# Altium footprint library iTOP4412_main_Clasics_v3_2.PcbLib: 41 footprints (part 1 of 3)
Each footprint in its own frame and in the unit in brackets; x right, y up, seen from the top. Pads: shape width x height; smd on the part's side, far side on the other; paste and mask are expansions set on the pad; w line width, h text height; cw(c..) or ccw(c..) is an arc to the next point about the centre after c.
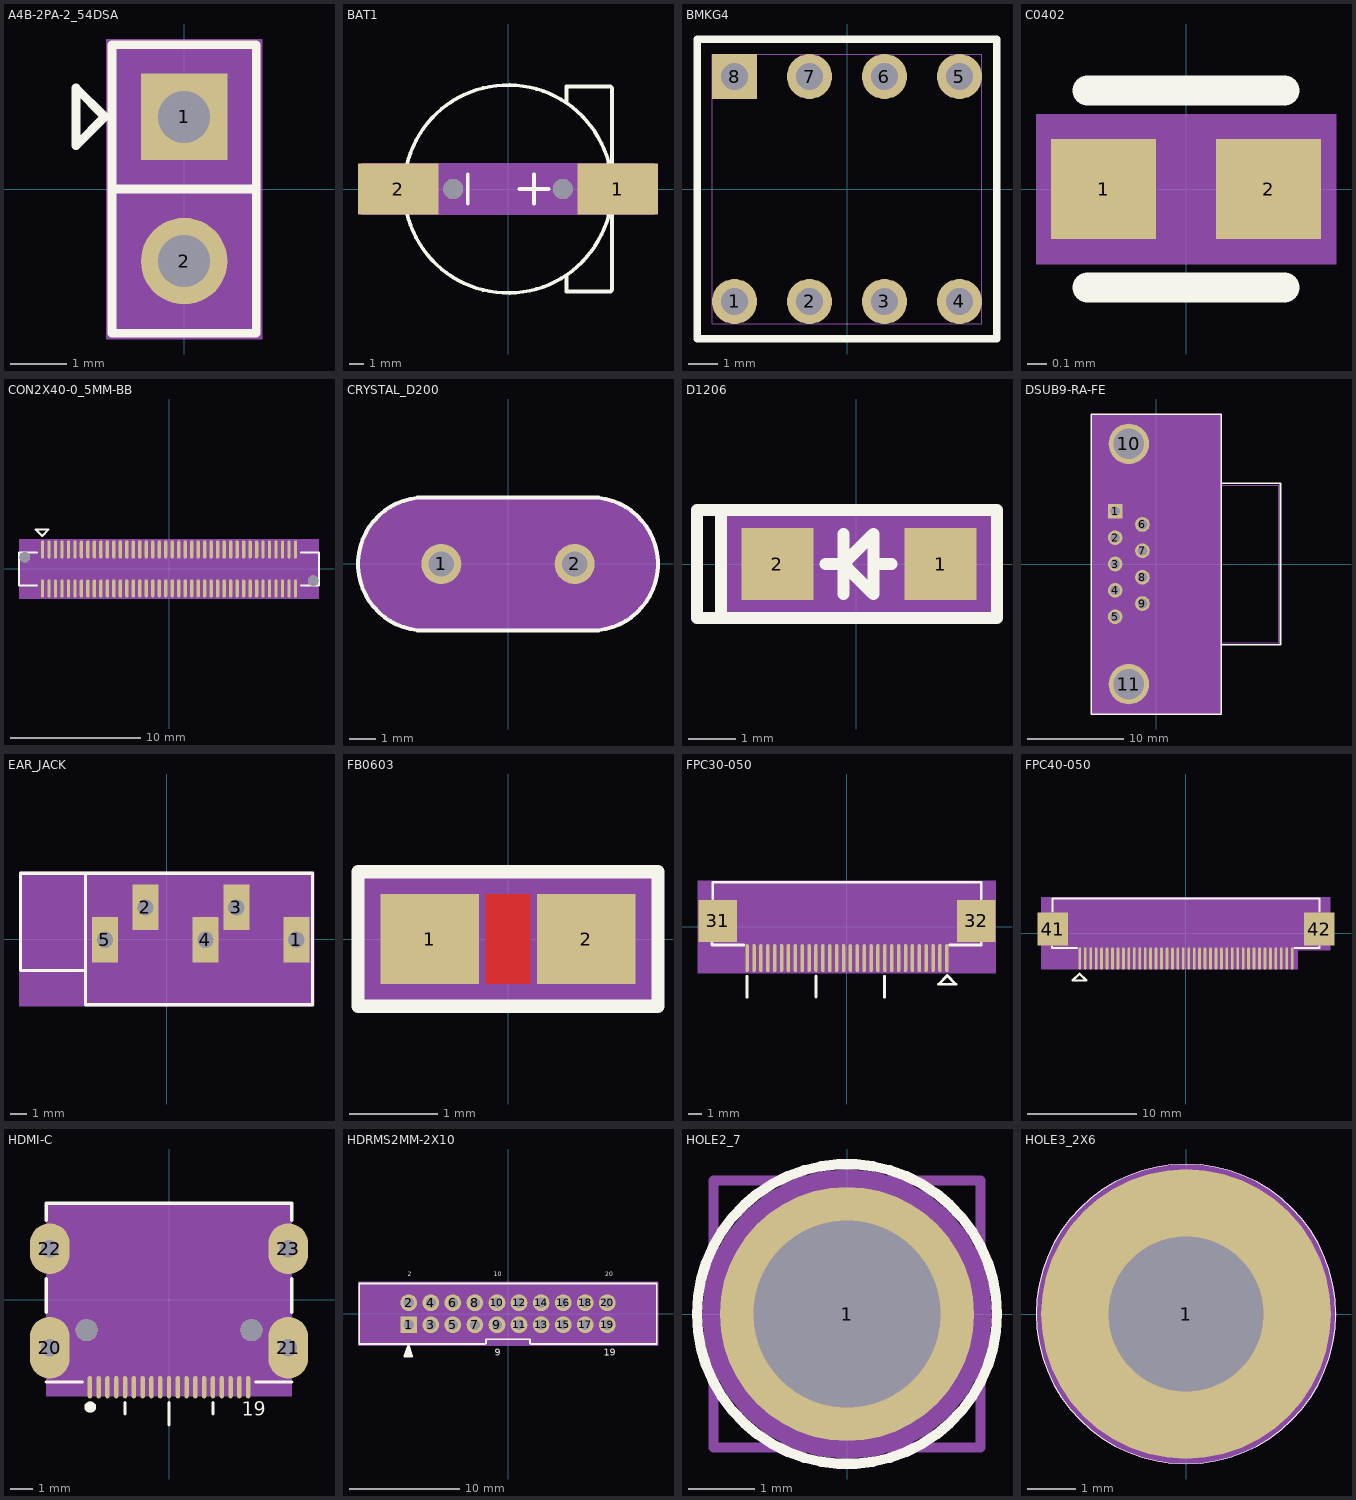
[diagram p0: the footprints below, top view; thin cyan lines are the x and y axes]

## A4B-2PA-2_54DSA [mil] "A4B-2PA-2_54DSA"
pads (2):
  rect 60x60 / inner round 60 / far side rect 60x60 hole 36: 1(0,50)
  round 60 hole 36: 2(0,-50)
Top Overlay:
  lines w5.98: -75,30 -75,70 -55,50 -75,30
  lines w6: -50,0 50,0 ; -50,-100 50,-100 50,100 -50,100 -50,-100
Mechanical 9:
  text "2" at 0,-38.98 h27.56
  text "1" at 0,61.02 h27.56
Mechanical 10:
  region: -53.94,-103.94 53.94,-103.94 53.94,103.94 -53.94,103.94

## BAT1 [mil] "BAT1"
pads (4):
  rect 220x140 smd: 1(300,0) 2(-300,0)
  round 55 / inner round 60 / far side round 55 hole 55: " "(-150,0) " "(150,0)
Top Overlay:
  circle w10: c0,0 r284.25
  lines w10: -110,-40 -110,40 ; 31,0.2 111,0.2 ; 71,-39.8 71,40.2 ; 160,-240 160,-280 280,-280 284.25,-275.75 284.25,0 284.25,275.75 280,280 160,280 160,240
Mechanical 9:
  text "1" at 300,-10 h25
  text "2" at -300,-10 h25
Mechanical 10:
  region: -400,-70 400,-70 400,70 -400,70

## BMKG4 [mil] "BMKG4"
pads (8):
  round 60 hole 36: 1(-150,-150) 2(-50,-150) 3(50,-150) 4(150,-150) 5(150,150) 6(50,150) 7(-50,150)
  rect 60x60 / inner round 60 / far side rect 60x60 hole 36: 8(-150,150)
Top Overlay:
  lines w10: -200,-200 200,-200 200,200 -200,200 -200,-200
Mechanical 9:
  text "5" at 140,150 h25
  text "6" at 40,150 h25
  text "7" at -60,150 h25
  text "8" at -160,150 h25
  text "2" at -60,-150 h25
  text "1" at -160,-150 h25
  text "4" at 140,-150 h25
  text "3" at 40,-150 h25
Mechanical 10:
  lines w1: -180,-180 180,-180 180,180 -180,180 -180,-180

## C0402 [mil] "C0402"
pads (2):
  rect 21x20 smd: 1(-16.5,0) 2(16.5,0)
Top Overlay:
  lines w5.98: -19.69,-19.69 19.69,-19.69 ; -19.69,19.69 19.69,19.69
Mechanical 9:
  text "2" at 16.5,10 h25
  text "1" at -16.5,10 h25
Mechanical 10:
  region: 30,-15 30,15 -30,15 -30,-15

## CON2X40-0_5MM-BB [mil] "CON2X40-0_5MM-BB"
pads (82):
  oval 10x55 smd: 1(-383.86,59.06) 2(-383.86,-59.06) 3(-364.17,59.06) 4(-364.17,-59.06) 5(-344.49,59.06) 6(-344.49,-59.06) 7(-324.8,59.06) 8(-324.8,-59.06) 9(-305.12,59.06) 10(-305.12,-59.06) 11(-285.43,59.06) 12(-285.43,-59.06) 13(-265.75,59.06) 14(-265.75,-59.06) 15(-246.06,59.06) 16(-246.06,-59.06) 17(-226.38,59.06) 18(-226.38,-59.06) 19(-206.69,59.06) 20(-206.69,-59.06) 21(-187.01,59.06) 22(-187.01,-59.06) 23(-167.32,59.06) 24(-167.32,-59.06) 25(-147.64,59.06) 26(-147.64,-59.06) 27(-127.95,59.06) 28(-127.95,-59.06) 29(-108.27,59.06) 30(-108.27,-59.06) 31(-88.58,59.06) 32(-88.58,-59.06) 33(-68.9,59.06) 34(-68.9,-59.06) 35(-49.21,59.06) 36(-49.21,-59.06) 37(-29.53,59.06) 38(-29.53,-59.06) 39(-9.84,59.06) 40(-9.84,-59.06) 41(9.84,59.06) 42(9.84,-59.06) 43(29.53,59.06) 44(29.53,-59.06) 45(49.21,59.06) 46(49.21,-59.06) 47(68.9,59.06) 48(68.9,-59.06) 49(88.58,59.06) 50(88.58,-59.06) 51(108.27,59.06) 52(108.27,-59.06) 53(127.95,59.06) 54(127.95,-59.06) 55(147.64,59.06) 56(147.64,-59.06) 57(167.32,59.06) 58(167.32,-59.06) 59(187.01,59.06) 60(187.01,-59.06) 61(206.69,59.06) 62(206.69,-59.06) 63(226.38,59.06) 64(226.38,-59.06) 65(246.06,59.06) 66(246.06,-59.06) 67(265.75,59.06) 68(265.75,-59.06) 69(285.43,59.06) 70(285.43,-59.06) 71(305.12,59.06) 72(305.12,-59.06) 73(324.8,59.06) 74(324.8,-59.06) 75(344.49,59.06) 76(344.49,-59.06) 77(364.17,59.06) 78(364.17,-59.06) 79(383.86,59.06) 80(383.86,-59.06)
  round 32 / inner round 60 / far side round 32 hole 32: " "(-437.01,35.43) " "(437.01,-35.43)
Top Overlay:
  lines w6: -400,-50 -455,-50 -455,50 -400,50 ; 400,-50 455,-50 455,50 400,50 ; -405,120 -365,120 -385,100 -405,120
Mechanical 9:
  text "29" at -88.27,159.06 h25
  text "42" at 29.84,-159.06 h25
  text "36" at -29.21,-159.06 h25
  text "35" at -29.21,159.06 h25
  text "31" at -68.58,159.06 h25
  text "40" at 10.16,-159.06 h25
  text "33" at -48.9,159.06 h25
  text "27" at -107.95,159.06 h25
  text "37" at -9.53,159.06 h25
  text "38" at -9.53,-159.06 h25
  text "2" at -373.86,-159.06 h25
  text "1" at -373.86,159.06 h25
  text "24" at -147.32,-159.06 h25
  text "22" at -167.01,-159.06 h25
  text "16" at -226.06,-159.06 h25
  text "30" at -88.27,-159.06 h25
  text "52" at 128.27,-159.06 h25
  text "46" at 69.21,-159.06 h25
  text "72" at 325.12,-159.06 h25
  text "48" at 88.9,-159.06 h25
  text "43" at 49.53,159.06 h25
  text "44" at 49.53,-159.06 h25
  text "64" at 246.38,-159.06 h25
  text "62" at 226.69,-159.06 h25
  text "56" at 167.64,-159.06 h25
  text "60" at 207.01,-159.06 h25
  text "58" at 187.32,-159.06 h25
  text "47" at 88.9,159.06 h25
  text "61" at 226.69,159.06 h25
  text "59" at 207.01,159.06 h25
  text "57" at 187.32,159.06 h25
  text "28" at -107.95,-159.06 h25
  text "55" at 167.64,159.06 h25
  text "26" at -127.64,-159.06 h25
  text "68" at 285.75,-159.06 h25
  text "73" at 344.8,159.06 h25
  text "11" at -265.43,159.06 h25
  text "10" at -285.12,-159.06 h25
  text "9" at -295.12,159.06 h25
  text "13" at -245.75,159.06 h25
  text "15" at -226.06,159.06 h25
  text "17" at -206.38,159.06 h25
  text "18" at -206.38,-159.06 h25
  text "14" at -245.75,-159.06 h25
  text "12" at -265.43,-159.06 h25
  text "8" at -314.8,-159.06 h25
  text "7" at -314.8,159.06 h25
  text "80" at 403.86,-159.06 h25
  text "3" at -354.17,159.06 h25
  text "4" at -354.17,-159.06 h25
  text "25" at -127.64,159.06 h25
  text "23" at -147.32,159.06 h25
  text "78" at 384.17,-159.06 h25
  text "76" at 364.49,-159.06 h25
  text "66" at 266.06,-159.06 h25
  text "20" at -186.69,-159.06 h25
  text "77" at 384.17,159.06 h25
  text "79" at 403.86,159.06 h25
  text "75" at 364.49,159.06 h25
  text "63" at 246.38,159.06 h25
  text "53" at 147.95,159.06 h25
  text "32" at -68.58,-159.06 h25
  text "34" at -48.9,-159.06 h25
  text "19" at -186.69,159.06 h25
  text "6" at -334.49,-159.06 h25
  text "49" at 108.58,159.06 h25
  text "50" at 108.58,-159.06 h25
  text "41" at 29.84,159.06 h25
  text "5" at -334.49,159.06 h25
  text "67" at 285.75,159.06 h25
  text "21" at -167.01,159.06 h25
  text "39" at 10.16,159.06 h25
  text "70" at 305.43,-159.06 h25
  text "54" at 147.95,-159.06 h25
  text "71" at 325.12,159.06 h25
  text "51" at 128.27,159.06 h25
  text "74" at 344.8,-159.06 h25
  text "69" at 305.43,159.06 h25
  text "65" at 266.06,159.06 h25
  text "45" at 69.21,159.06 h25
Mechanical 10:
  region: -455,-90 -455,90 455,90 455,-90
Mechanical 11:
  lines w6: -452.76,-49.21 452.76,-49.21 452.76,49.21 -452.76,49.21 -452.76,-49.21

## CRYSTAL_D200 [mil] "CRYSTAL_D200"
pads (2):
  round 60 hole 38: 1(-100.26,0) 2(99.74,0)
Top Overlay:
  lines w6: -125.26,-100 cw(c-125.26,0) -125.26,100 124.74,100 cw(c124.74,0) 124.74,-100 -125.26,-100
  text ".Designator" at -10,260 h30
Mechanical 8:
  text "1" at -100.26,10 h25
  text "2" at 99.74,10 h25
Mechanical 9:
  region: -125.26,100 124.74,100 133.46,99.63 142.11,98.5 150.63,96.62 158.95,94.01 167.01,90.68 174.76,86.67 182.12,81.99 189.05,76.68 195.49,70.8 201.39,64.37 206.71,57.46 211.41,50.11 215.44,42.38 218.79,34.32 221.43,26 223.32,17.49 224.47,8.84 224.86,0.12 224.5,-8.59 223.37,-17.24 221.49,-25.76 218.88,-34.08 215.55,-42.15 211.53,-49.89 206.85,-57.26 201.55,-64.18 195.66,-70.62 189.24,-76.52 182.32,-81.84 174.97,-86.54 167.24,-90.58 159.18,-93.93 150.87,-96.56 142.35,-98.46 133.71,-99.61 124.99,-100 124.74,-100 -125.26,-100 -133.97,-99.59 -142.62,-98.41 -151.13,-96.49 -159.44,-93.83 -167.48,-90.46 -175.21,-86.41 -182.55,-81.69 -189.45,-76.35 -195.86,-70.43 -201.72,-63.98 -207.01,-57.03 -211.67,-49.66 -215.66,-41.9 -218.97,-33.83 -221.56,-25.5 -223.41,-16.98 -224.52,-8.32 -224.87,0.4 -224.45,9.11 -223.28,17.75 -221.36,26.26 -218.7,34.57 -215.33,42.62 -211.27,50.34 -206.55,57.68 -201.22,64.58 -195.3,70.99 -188.84,76.86 -181.9,82.14 -174.52,86.8 -166.77,90.8 -158.7,94.1 -150.37,96.69 -141.84,98.55 -133.19,99.65
Mechanical 10:
  lines w1: -125.26,-100 cw(c-125.26,0) -125.26,100 124.74,100 cw(c124.74,0) 124.74,-100 -125.26,-100

## D1206 [mil] "D1206"
pads (2):
  rect 60x60 smd: 1(70.49,0) 2(-65.49,0)
Top Overlay:
  lines w10: -112.5,-45 -112.5,45 ; -25.49,0 -10.49,0 ; -10.49,-25 -10.49,25 ; 14.51,0 29.51,0 ; -10.49,0 14.51,-25 14.51,25 -10.49,0 ; -132.5,-45 -132.5,45 2.5,45 117.5,45 117.5,-45 2.5,-45 -132.5,-45
Mechanical 9:
  text "2" at -65.49,-10 h25
  text "1" at 70.49,-10 h25
Mechanical 10:
  region: -117.5,-45 117.5,-45 117.5,45 -117.5,45

## DSUB9-RA-FE [mil] "DSUB9-RA-FE"
pads (11):
  rect 60x60 / inner round 60 / far side rect 60x60 hole 40: 1(-168.11,215.75)
  round 60 hole 40: 2(-168.11,107.87) 3(-168.11,0) 4(-168.11,-107.87) 5(-168.11,-215.75) 6(-56.3,161.81) 7(-56.3,53.94) 8(-56.3,-53.94) 9(-56.3,-161.81)
  round 165.35 / inner round 60 / far side round 165.35 hole 125.98: 10(-112.2,492.13) 11(-112.2,-492.13)
Top Overlay:
  lines w6: -265.75,-614.17 265.75,-614.17 265.75,614.17 -265.75,614.17 -265.75,-614.17
  lines w7.87: 265.75,-330.71 509.84,-330.71 509.84,330.71 265.75,330.71
Mechanical 9:
  text "7" at -56.3,42.91 h27.56
  text "8" at -56.3,-64.96 h27.56
  text "2" at -168.11,96.85 h27.56
  text "3" at -168.11,-11.02 h27.56
  text "5" at -168.11,-226.77 h27.56
  text "9" at -56.3,-172.83 h27.56
  text "6" at -56.3,150.79 h27.56
  text "4" at -168.11,-118.9 h27.56
  text "11" at -112.2,-536.22 h27.56
  text "10" at -112.2,448.03 h27.56
  text "1" at -168.11,204.72 h27.56
Mechanical 10:
  region: -265.75,-614.17 265.75,-614.17 265.75,614.17 -265.75,614.17
Mechanical 11:
  lines w1: 257.87,-322.83 501.57,-322.83 501.57,322.83 257.87,322.83 ; -257.09,-606.5 -257.09,606.5 258.66,606.5 258.66,-606.5 -257.09,-606.5
Mechanical 12:
  pour cut-out: -265.75,-614.17 265.75,-614.17 265.75,614.17 -265.75,614.17

## EAR_JACK [mm] "EAR_JACK"
pads (5):
  rect 1.6x2.8 / inner round 1.524 / far side rect 1.6x2.8 hole 1: 1(8,-0.05) 2(-1.3,1.95) 3(4.3,1.95) 4(2.4,-0.05) 5(-3.8,-0.05)
Top Overlay:
  lines w0.2: -4.9,4.05 -5,3.95 -5,-1.95 ; -5,-1.95 -9,-1.95 -9,4.05 9,4.05 9,-4.05 -5,-4.05 -5,-1.95
Mechanical 9:
  text "1" at 8,0.458 h0.64
  text "3" at 4.3,2.458 h0.64
  text "4" at 2.4,0.458 h0.64
  text "2" at -1.3,2.458 h0.64
  text "5" at -3.8,0.458 h0.64
Mechanical 10:
  region: -9.1,-4.15 9.1,-4.15 9.1,4.15 -9.1,4.15

## FB0603 [mil] "FB0603"
pads (2):
  rect 44x40 smd: 1(-35,0) 2(35,0)
Top Layer:
  region: -10,-20 10,-20 10,20 -10,20
Top Overlay:
  lines w6: -67,-30 -67,30 67,30 67,-30 20,-30 -67,-30
Mechanical 9:
  text "1" at -35,-10 h25
  text "2" at 35,-10 h25
Mechanical 10:
  region: -65,-30 65,-30 65,30 -65,30

## FPC30-050 [mil] "FPC30-050"
pads (32):
  oval 10x80 smd: 1(285.86,-89) 2(266.17,-89) 3(246.49,-89) 4(226.8,-89) 5(207.12,-89) 6(187.43,-89) 7(167.75,-89) 8(148.06,-89) 9(128.38,-89) 10(108.69,-89) 11(89.01,-89) 12(69.32,-89) 13(49.64,-89) 14(29.95,-89) 15(10.27,-89) 16(-9.42,-89) 17(-29.1,-89) 18(-48.79,-89) 19(-68.47,-89) 20(-88.16,-89) 21(-107.84,-89) 22(-127.53,-89) 23(-147.21,-89) 24(-166.9,-89) 25(-186.58,-89) 26(-206.27,-89) 27(-225.95,-89) 28(-245.64,-89) 29(-265.32,-89) 30(-285.01,-89)
  rect 110x120 smd: 31(-368.28,17.3) 32(369.28,17.3)
Top Overlay:
  lines w7.87: -385.25,-45.69 -385.25,-51.6 -294.7,-51.6 ; -383.28,80.29 -383.28,127.53 384.28,127.53 384.28,80.29 ; -285,-201 -285,-141 ; -88,-200 -88,-140 ; 108,-201 108,-141 ; 293.73,-51.6 384.28,-51.6 384.28,-45.69 ; 262,-164 287,-139 312,-164 262,-164
Mechanical 9:
  text "4" at 234.8,-89 h20
  text "3" at 254.49,-89 h20
  text "7" at 175.75,-89 h20
  text "5" at 215.12,-89 h20
  text "6" at 195.43,-89 h20
  text "9" at 136.38,-89 h20
  text "2" at 274.17,-89 h20
  text "13" at 65.64,-89 h20
  text "25" at -170.58,-89 h20
  text "23" at -131.21,-89 h20
  text "17" at -13.1,-89 h20
  text "20" at -72.16,-89 h20
  text "26" at -190.27,-89 h20
  text "19" at -52.47,-89 h20
  text "14" at 45.95,-89 h20
  text "16" at 6.58,-89 h20
  text "22" at -111.53,-89 h20
  text "29" at -249.32,-89 h20
  text "11" at 105.01,-89 h20
  text "30" at -269.01,-89 h20
  text "12" at 85.32,-89 h20
  text "10" at 124.69,-89 h20
  text "15" at 26.27,-89 h20
  text "18" at -32.79,-89 h20
  text "21" at -91.84,-89 h20
  text "24" at -150.9,-89 h20
  text "28" at -229.64,-89 h20
  text "27" at -209.95,-89 h20
  text "31" at -352.28,17.3 h20
  text "32" at 385.28,17.3 h20
  text "1" at 293.86,-89 h20
  text "8" at 156.06,-89 h20
Mechanical 10:
  region: 426,132 426,-132 -426,-132 -426,132

## FPC40-050 [mil] "FPC40-050"
pads (42):
  oval 10x80 smd: 1(-382.81,-90.55) 2(-363.13,-90.55) 3(-343.44,-90.55) 4(-323.76,-90.55) 5(-304.07,-90.55) 6(-284.39,-90.55) 7(-264.7,-90.55) 8(-245.02,-90.55) 9(-225.34,-90.55) 10(-205.65,-90.55) 11(-185.97,-90.55) 12(-166.28,-90.55) 13(-146.59,-90.55) 14(-126.91,-90.55) 15(-107.22,-90.55) 16(-87.54,-90.55) 17(-67.86,-90.55) 18(-48.17,-90.55) 19(-28.48,-90.55) 20(-8.8,-90.55) 21(10.89,-90.55) 22(30.57,-90.55) 23(50.26,-90.55) 24(69.94,-90.55) 25(89.63,-90.55) 26(109.31,-90.55) 27(129,-90.55) 28(148.68,-90.55) 29(168.37,-90.55) 30(188.05,-90.55) 31(207.74,-90.55) 32(227.42,-90.55) 33(247.11,-90.55) 34(266.79,-90.55) 35(286.48,-90.55) 36(306.16,-90.55) 37(325.85,-90.55) 38(345.53,-90.55) 39(365.22,-90.55) 40(384.9,-90.55)
  rect 110x120 smd: 41(-481.24,15.75) 42(483.33,15.75)
Top Overlay:
  lines w7.87: -483.21,-47.24 -483.21,-53.15 -392.66,-53.15 ; -481.24,78.74 -481.24,125.98 483.33,125.98 483.33,78.74 ; 392.77,-53.15 483.33,-53.15 483.33,-47.24 ; -408.96,-170.55 -383.96,-145.55 -358.96,-170.55 -408.96,-170.55
Mechanical 9:
  text "1" at -392.81,-90.55 h25
  text "4" at -333.76,-90.55 h25
  text "3" at -353.44,-90.55 h25
  text "2" at -373.13,-90.55 h25
  text "5" at -314.07,-90.55 h25
  text "31" at 187.74,-90.55 h25
  text "28" at 128.68,-90.55 h25
  text "35" at 266.48,-90.55 h25
  text "25" at 69.63,-90.55 h25
  text "26" at 89.31,-90.55 h25
  text "30" at 168.05,-90.55 h25
  text "37" at 305.85,-90.55 h25
  text "6" at -294.39,-90.55 h25
  text "11" at -205.97,-90.55 h25
  text "20" at -28.8,-90.55 h25
  text "29" at 148.37,-90.55 h25
  text "27" at 109,-90.55 h25
  text "32" at 207.42,-90.55 h25
  text "38" at 325.53,-90.55 h25
  text "39" at 345.22,-90.55 h25
  text "42" at 467.33,15.75 h20
  text "41" at -497.24,15.75 h20
  text "40" at 364.9,-90.55 h25
  text "9" at -235.34,-90.55 h25
  text "17" at -87.86,-90.55 h25
  text "16" at -107.54,-90.55 h25
  text "10" at -225.65,-90.55 h25
  text "7" at -274.7,-90.55 h25
  text "18" at -68.17,-90.55 h25
  text "8" at -255.02,-90.55 h25
  text "14" at -146.91,-90.55 h25
  text "13" at -166.59,-90.55 h25
  text "15" at -127.22,-90.55 h25
  text "12" at -186.28,-90.55 h25
  text "24" at 49.94,-90.55 h25
  text "23" at 30.26,-90.55 h25
  text "22" at 10.57,-90.55 h25
  text "21" at -9.11,-90.55 h25
  text "19" at -48.48,-90.55 h25
  text "34" at 246.79,-90.55 h25
  text "33" at 227.11,-90.55 h25
  text "36" at 286.16,-90.55 h25
Mechanical 10:
  region: -522.38,-129.92 405,-129.92 405,-60.31 522.7,-60.31 522.7,129.92 -522.38,129.92 -522.38,-124.92 -522.7,-125.24 -522.38,-125.55

## HDMI-C [mm] "HDMI-C"
pads (25):
  oval 0.203x1.016 smd: 1(-3.6,-3.982) 2(-3.2,-3.982) 3(-2.8,-3.982) 4(-2.4,-3.982) 5(-2,-3.982) 6(-1.6,-3.982) 7(-1.2,-3.982) 8(-0.8,-3.982) 9(-0.4,-3.982) 10(0,-3.982) 11(0.4,-3.982) 12(0.8,-3.982) 13(1.2,-3.982) 14(1.6,-3.982) 15(2,-3.982) 16(2.4,-3.982) 17(2.8,-3.982) 18(3.2,-3.982) 19(3.6,-3.982)
  oval 1.8x2.8 / inner round 1.524 / far side oval 1.8x2.8 hole 0.8: 20(-5.425,-2.182) 21(5.425,-2.182)
  oval 1.8x2.3 / inner round 1.524 / far side oval 1.8x2.3 hole 0.8: 22(-5.425,2.317) 23(5.425,2.317)
  round 1 / inner round 1.524 / far side round 1 hole 1: " "(-3.75,-1.382) " "(3.75,-1.382)
Top Overlay:
  pour cut-out: -3.324,-4.889 -3.344,-4.79 -3.4,-4.706 -3.484,-4.65 -3.583,-4.631 -3.682,-4.65 -3.766,-4.706 -3.822,-4.79 -3.842,-4.889 -3.822,-4.989 -3.766,-5.073 -3.682,-5.129 -3.583,-5.148 -3.484,-5.129 -3.4,-5.073 -3.344,-4.989
  lines w0.152: -5.588,-3.746 -3.937,-3.746 ; -5.588,-0.572 -5.588,0.953 ; -5.588,3.619 -5.588,4.381 5.588,4.381 5.588,3.619 ; -2,-5.182 -2,-4.682 ; 0,-5.682 0,-4.682 ; 2,-5.182 2,-4.682 ; 3.937,-3.746 5.588,-3.746 ; 5.588,-0.572 5.588,0.953
  text "19" at 3.3,-5.282 h0.64
Mechanical 9:
  text "18" at 2.794,-5.252 h0.51
  text "19" at 3.194,-5.252 h0.51
  text "14" at 1.194,-5.252 h0.51
  text "15" at 1.594,-5.252 h0.51
  text "16" at 1.994,-5.252 h0.51
  text "4" at -2.603,-5.252 h0.51
  text "7" at -1.403,-5.252 h0.51
  text "10" at -0.406,-5.252 h0.51
  text "13" at 0.794,-5.252 h0.51
  text "23" at 5.882,2.317 h0.51
  text "21" at 5.882,-2.182 h0.51
  text "22" at -4.968,2.317 h0.51
  text "20" at -4.968,-2.182 h0.51
  text "1" at -3.803,-5.252 h0.51
  text "17" at 2.394,-5.252 h0.51
  text "2" at -3.403,-5.252 h0.51
  text "9" at -0.603,-5.252 h0.51
  text "8" at -1.003,-5.252 h0.51
  text "3" at -3.003,-5.252 h0.51
  text "11" at -0.006,-5.252 h0.51
  text "6" at -1.803,-5.252 h0.51
  text "5" at -2.203,-5.252 h0.51
  text "12" at 0.394,-5.252 h0.51
Mechanical 10:
  region: -5.588,4.381 5.588,4.381 5.588,-4.381 -5.588,-4.381

## HDRMS2MM-2X10 [mil] "HDRMS2MM-2X10"
pads (20):
  rect 60x60 / inner round 60 / far side rect 60x60 hole 36: 1(-354.33,-39.37)
  round 60 hole 36: 2(-354.33,39.37) 3(-275.59,-39.37) 4(-275.59,39.37) 5(-196.85,-39.37) 6(-196.85,39.37) 7(-118.11,-39.37) 8(-118.11,39.37) 9(-39.37,-39.37) 10(-39.37,39.37) 11(39.37,-39.37) 12(39.37,39.37) 13(118.11,-39.37) 14(118.11,39.37) 15(196.85,-39.37) 16(196.85,39.37) 17(275.59,-39.37) 18(275.59,39.37) 19(354.33,-39.37) 20(354.33,39.37)
Top Overlay:
  lines w5.98: -531.5,-108.27 -531.5,108.27 531.5,108.27 531.5,-108.27 80.71,-108.27 78.74,-106.3 78.74,-90.55 -78.74,-90.55 -78.74,-106.3 -80.71,-108.27 -531.5,-108.27
  lines w7.87: -360.75,-151.38 -355.51,-112.01 ; -352.87,-151.38 -355.51,-112.01 ; -345,-151.38 -355.51,-112.01 ; -355.51,-112.01 -342.4,-151.38 -368.62,-151.38 -355.51,-112.01
  text "9" at -47.24,-149.61 h25
  text "19" at 342.52,-149.61 h25
  text "20" at 346.46,133.86 h15.75
  text "2" at -358.27,133.86 h15.75
  text "10" at -51.18,133.86 h15.75
Mechanical 9:
  text "11" at 39.37,-59.37 h25
  text "15" at 196.85,-59.37 h25
  text "2" at -354.33,29.37 h25
  text "1" at -354.33,-49.37 h25
  text "9" at -39.37,-49.37 h25
  text "13" at 118.11,-59.37 h25
  text "3" at -275.59,-49.37 h25
  text "5" at -196.85,-49.37 h25
  text "7" at -118.11,-49.37 h25
  text "4" at -275.59,29.37 h25
  text "6" at -196.85,29.37 h25
  text "8" at -118.11,29.37 h25
  text "10" at -39.37,19.37 h25
  text "12" at 39.37,19.37 h25
  text "14" at 118.11,19.37 h25
  text "16" at 196.85,19.37 h25
  text "18" at 275.59,19.37 h25
  text "20" at 354.33,19.37 h25
  text "19" at 354.33,-59.37 h25
  text "17" at 275.59,-59.37 h25
Mechanical 10:
  region: 535.43,-114.17 535.43,114.17 -535.43,114.17 -535.43,-114.17

## HOLE2_7 [mil] "HOLE2_7"
pads (1):
  round 150 / inner round 60 / far side round 150 hole 110: 1(0,0)
Top Overlay:
  circle w5.98: c0,0 r88.46
Mechanical 9:
  text "1" at -8,0 h20
Mechanical 10:
  pour cut-out: 85.41,0 83.77,16.66 78.91,32.69 71.02,47.45 60.39,60.39 47.45,71.02 32.69,78.91 16.66,83.77 0,85.41 -16.66,83.77 -32.69,78.91 -47.45,71.02 -60.39,60.39 -71.02,47.45 -78.91,32.69 -83.77,16.66 -85.41,0 -83.77,-16.66 -78.91,-32.69 -71.02,-47.45 -60.39,-60.39 -47.45,-71.02 -32.69,-78.91 -16.66,-83.77 0,-85.41 16.66,-83.77 32.69,-78.91 47.45,-71.02 60.39,-60.39 71.02,-47.45 78.91,-32.69 83.77,-16.66
Mechanical 11:
  lines w5.98: -78.74,-78.74 78.74,-78.74 78.74,78.74 -78.74,78.74 -78.74,-78.74

## HOLE3_2X6 [mil] "HOLE3_2X6"
pads (1):
  round 236 / inner round 60 / far side round 236 hole 126: 1(0,0)
Top Overlay:
  circle w0.25: c0,0 r122.07
Mechanical 9:
  text "1" at -10,0 h25
Mechanical 10:
  pour cut-out: 122.18,0 120.68,19.11 116.2,37.76 108.87,55.47 98.85,71.82 86.4,86.4 71.82,98.85 55.47,108.87 37.76,116.2 19.11,120.68 0,122.18 -19.11,120.68 -37.76,116.2 -55.47,108.87 -71.82,98.85 -86.4,86.4 -98.85,71.82 -108.87,55.47 -116.2,37.76 -120.68,19.11 -122.18,0 -120.68,-19.11 -116.2,-37.76 -108.87,-55.47 -98.85,-71.82 -86.4,-86.4 -71.82,-98.85 -55.47,-108.87 -37.76,-116.2 -19.11,-120.68 0,-122.18 19.11,-120.68 37.76,-116.2 55.47,-108.87 71.82,-98.85 86.4,-86.4 98.85,-71.82 108.87,-55.47 116.2,-37.76 120.68,-19.11
Mechanical 11:
  circle w1: c0,0 r122.07